# Altium schematic symbol library SCH - SENSOR - TEMPERATURE - SILICON LABS SI7051-A20.SCHLIB: 1 symbol
Pins are listed as number, name and electrical type; pins without a type are passive.

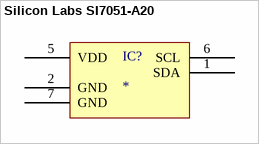
[diagram p0: symbol Silicon Labs SI7051-A20]

## Silicon Labs SI7051-A20
designator IC?
pins: 1 SDA, 2 GND, 5 VDD, 6 SCL, 7 GND